# Altium schematic symbol library Microcontrollers.SchLib: 4 symbols
Pins are listed as number, name and electrical type; pins without a type are passive.

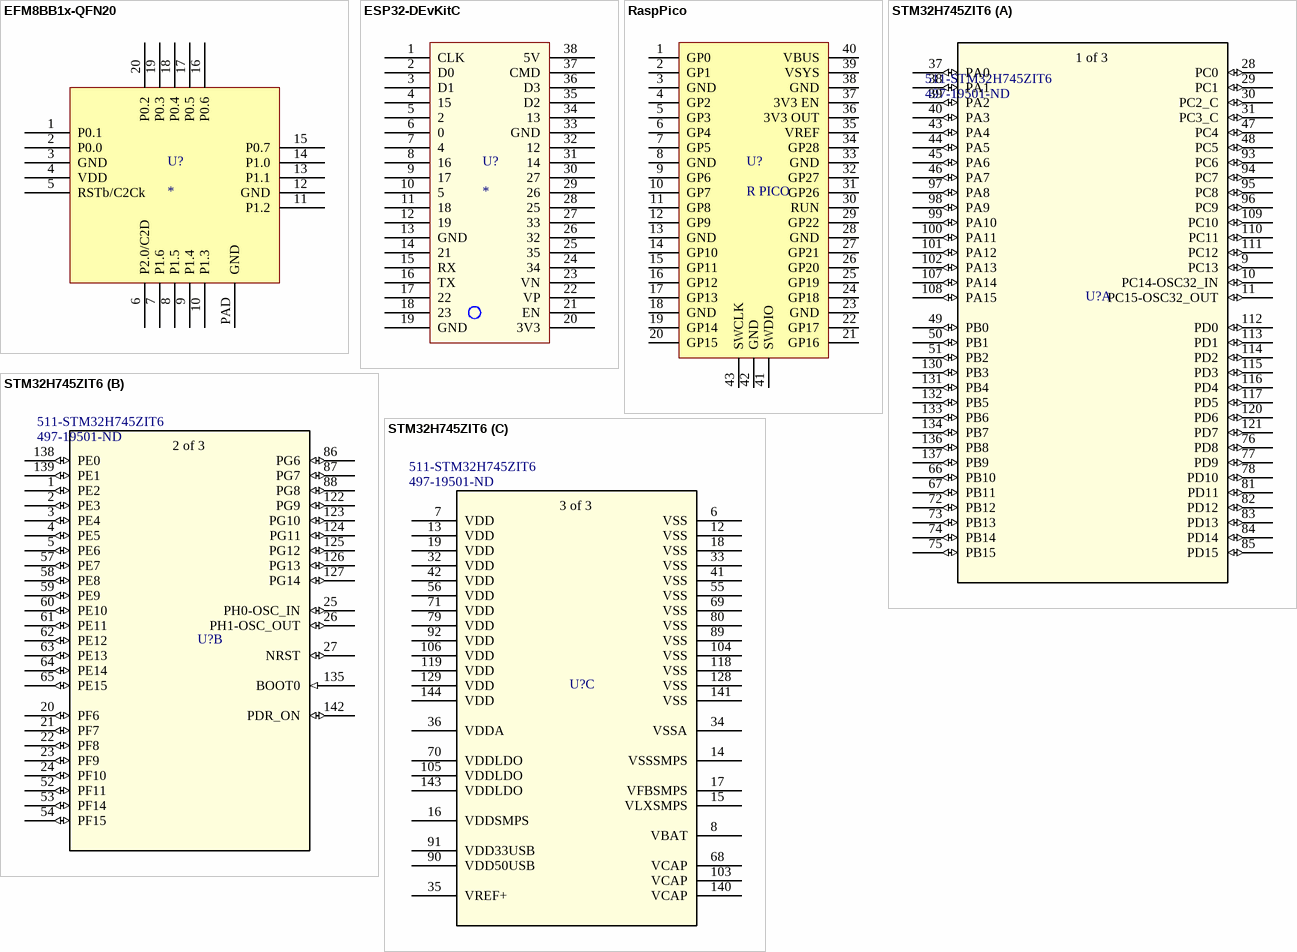
[diagram p0: symbols EFM8BB1x-QFN20 to STM32H745ZIT6]

## EFM8BB1x-QFN20
designator U?
footprint QFN-20 (QFN, 20-Leads, Body 3.00x3.00mm, Pitch 0.50mm, Thermal Pad 1.70x1.70mm, IPC Low Density)
pins: 1 P0.1, 2 P0.0, 3 GND, 4 VDD, 5 RSTb/C2Ck, 6 P2.0/C2D, 7 P1.6, 8 P1.5, 9 P1.4, 10 P1.3, 11 P1.2, 12 GND, 13 P1.1, 14 P1.0, 15 P0.7, 16 P0.6, 17 P0.5, 18 P0.4, 19 P0.3, 20 P0.2, PAD GND

## ESP32-DEvKitC
designator U?
footprint ESP32 (Footprint not found)
pins: 1 CLK, 2 D0, 3 D1, 4 15, 5 2, 6 0, 7 4, 8 16, 9 17, 10 5, 11 18, 12 19, 13 GND, 14 21, 15 RX, 16 TX, 17 22, 18 23, 19 GND, 20 3V3, 21 EN, 22 VP, 23 VN, 24 34, 25 35, 26 32, 27 33, 28 25, 29 26, 30 27, 31 14, 32 12, 33 GND, 34 13, 35 D2, 36 D3, 37 CMD, 38 5V

## RaspPico
designator U?, comment R PICO
footprint RPICO (Footprint not found)
pins: 1 GP0, 2 GP1, 3 GND, 4 GP2, 5 GP3, 6 GP4, 7 GP5, 8 GND, 9 GP6, 10 GP7, 11 GP8, 12 GP9, 13 GND, 14 GP10, 15 GP11, 16 GP12, 17 GP13, 18 GND, 19 GP14, 20 GP15, 21 GP16, 22 GP17, 23 GND, 24 GP18, 25 GP19, 26 GP20, 27 GP21, 28 GND, 29 GP22, 30 RUN, 31 GP26, 32 GP27, 33 GND, 34 GP28, 35 VREF, 36 3V3 OUT, 37 3V3 EN, 38 GND, 39 VSYS, 40 VBUS, 41 SWDIO, 42 GND, 43 SWCLK

## STM32H745ZIT6
designator U?  Supplier Part Number 1: 497-19501-ND  Supplier Part Number 2: 511-STM32H745ZIT6  (hidden comment: *)
Supplier 1: Digi-Key; Supplier 2: Mouser
footprint LQFP-144
part A pins: 9 PC13 (io), 10 PC14-OSC32_IN (io), 11 PC15-OSC32_OUT (io), 28 PC0 (io), 29 PC1 (io), 30 PC2_C (io), 31 PC3_C (io), 37 PA0 (io), 38 PA1 (io), 39 PA2 (io), 40 PA3 (io), 43 PA4 (io), 44 PA5 (io), 45 PA6 (io), 46 PA7 (io), 47 PC4 (io), 48 PC5 (io), 49 PB0 (io), 50 PB1 (io), 51 PB2 (io), 66 PB10 (io), 67 PB11 (io), 72 PB12 (io), 73 PB13 (io), 74 PB14 (io), 75 PB15 (io), 76 PD8 (io), 77 PD9 (io), 78 PD10 (io), 81 PD11 (io), 82 PD12 (io), 83 PD13 (io), 84 PD14 (io), 85 PD15 (io), 93 PC6 (io), 94 PC7 (io), 95 PC8 (io), 96 PC9 (io), 97 PA8 (io), 98 PA9 (io), 99 PA10 (io), 100 PA11 (io), 101 PA12 (io), 102 PA13 (io), 107 PA14 (io), 108 PA15 (io), 109 PC10 (io), 110 PC11 (io), 111 PC12 (io), 112 PD0 (io), 113 PD1 (io), 114 PD2 (io), 115 PD3 (io), 116 PD4 (io), 117 PD5 (io), 120 PD6 (io), 121 PD7 (io), 130 PB3 (io), 131 PB4 (io), 132 PB5 (io), 133 PB6 (io), 134 PB7 (io), 136 PB8 (io), 137 PB9 (io)
part B pins: 1 PE2 (io), 2 PE3 (io), 3 PE4 (io), 4 PE5 (io), 5 PE6 (io), 20 PF6 (io), 21 PF7 (io), 22 PF8 (io), 23 PF9 (io), 24 PF10 (io), 25 PH0-OSC_IN (io), 26 PH1-OSC_OUT (io), 27 NRST (io), 52 PF11 (io), 53 PF14 (io), 54 PF15 (io), 57 PE7 (io), 58 PE8 (io), 59 PE9 (io), 60 PE10 (io), 61 PE11 (io), 62 PE12 (io), 63 PE13 (io), 64 PE14 (io), 65 PE15 (io), 86 PG6 (io), 87 PG7 (io), 88 PG8 (io), 122 PG9 (io), 123 PG10 (io), 124 PG11 (io), 125 PG12 (io), 126 PG13 (io), 127 PG14 (io), 135 BOOT0 (in), 138 PE0 (io), 139 PE1 (io), 142 PDR_ON (io)
part C pins: 6 VSS (power), 7 VDD (power), 8 VBAT (power), 12 VSS (power), 13 VDD (power), 14 VSSSMPS (power), 15 VLXSMPS (power), 16 VDDSMPS (power), 17 VFBSMPS (power), 18 VSS (power), 19 VDD (power), 32 VDD (power), 33 VSS (power), 34 VSSA (power), 35 VREF+ (power), 36 VDDA (power), 41 VSS (power), 42 VDD (power), 55 VSS (power), 56 VDD (power), 68 VCAP (power), 69 VSS (power), 70 VDDLDO (power), 71 VDD (power), 79 VDD (power), 80 VSS (power), 89 VSS (power), 90 VDD50USB (power), 91 VDD33USB (power), 92 VDD (power), 103 VCAP (power), 104 VSS (power), 105 VDDLDO (power), 106 VDD (power), 118 VSS (power), 119 VDD (power), 128 VSS (power), 129 VDD (power), 140 VCAP (power), 141 VSS (power), 143 VDDLDO (power), 144 VDD (power)
part A text: 1 of 3
part B text: 2 of 3
part C text: 3 of 3